# Altium footprint library OWMR.PcbLib: 36 footprints (part 2 of 3)
Each footprint in its own frame and in the unit in brackets; x right, y up, seen from the top. Pads: shape width x height; smd on the part's side, far side on the other; paste and mask are expansions set on the pad; w line width, h text height; cw(c..) or ccw(c..) is an arc to the next point about the centre after c.
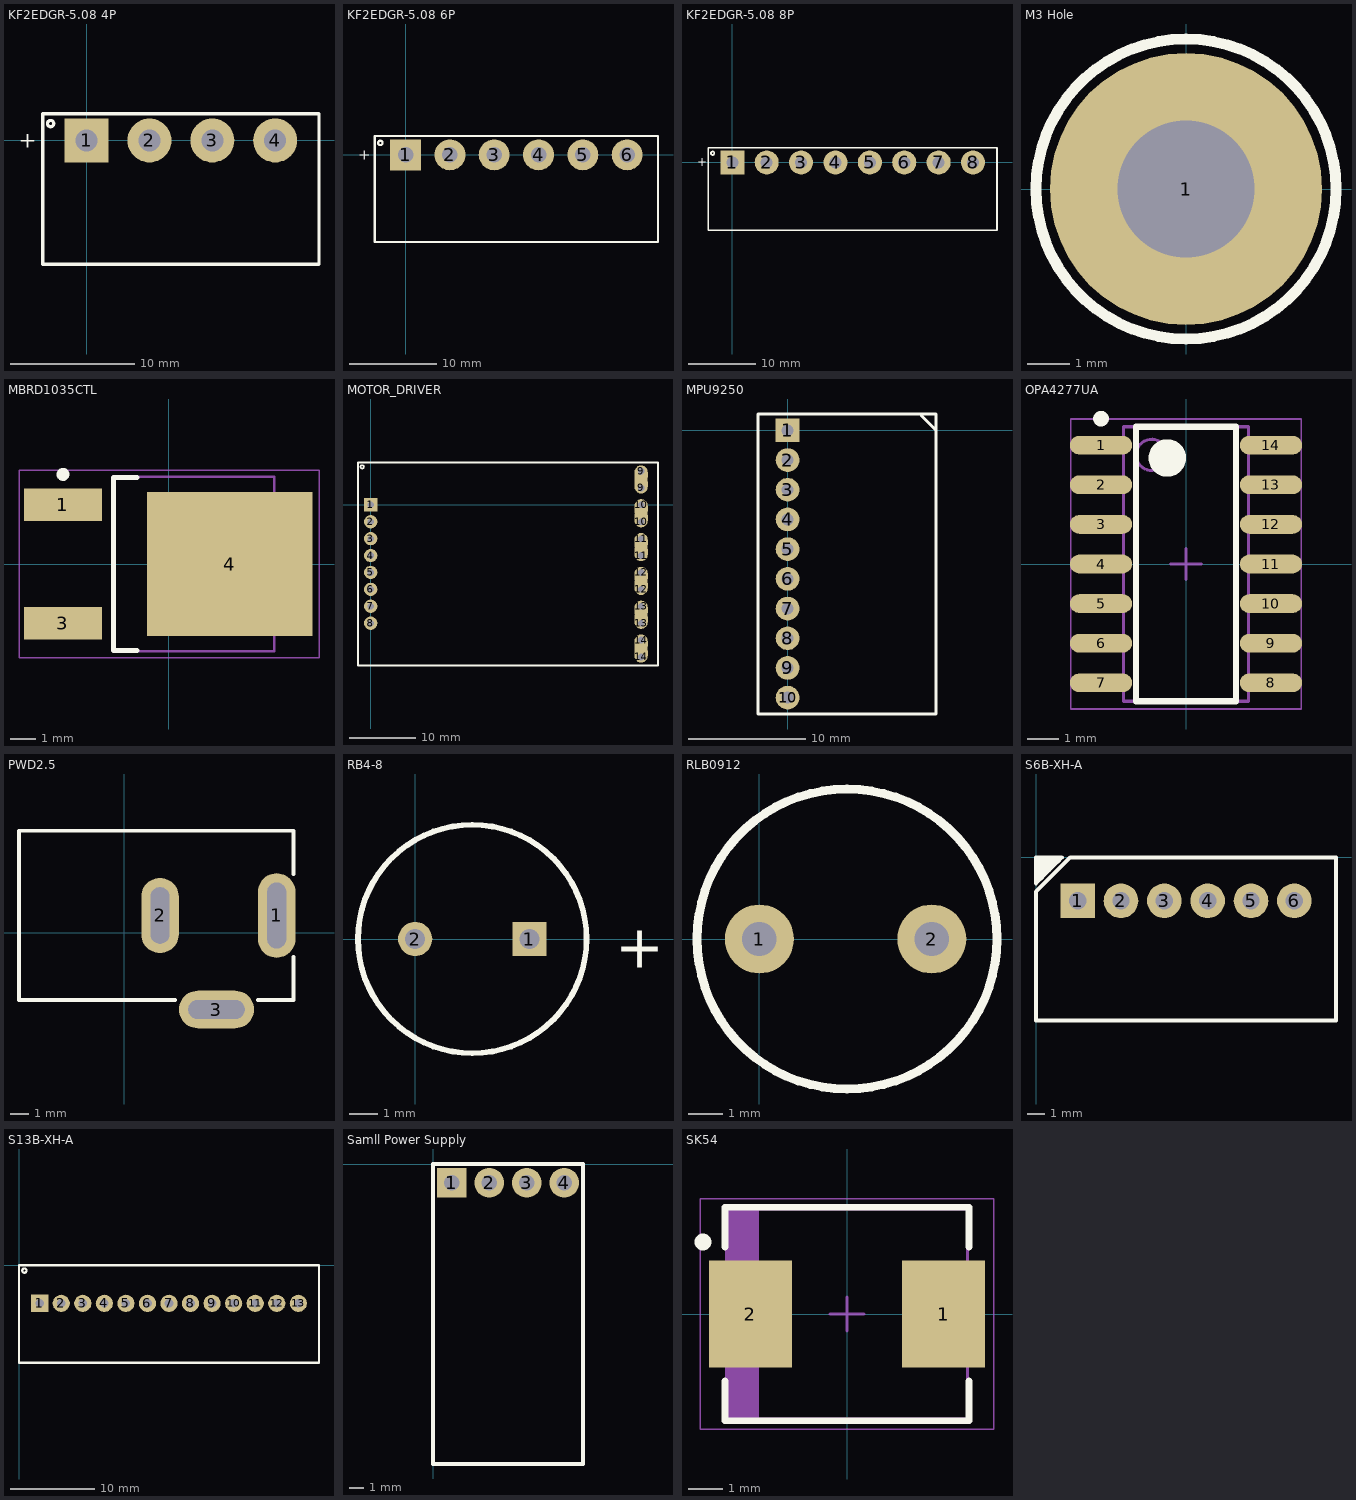
[diagram p1: the footprints below, top view; thin cyan lines are the x and y axes]

## KF2EDGR-5.08 4P [mil]
pads (4):
  rect 140x140 hole 70: 1(0,0)
  round 140 hole 70: 2(200,0) 3(400,0) 4(600,0)
Top Overlay:
  circle w10: c-114.37,53.74 r10
  lines w10: -139.37,-393.7 -139.37,85 739.37,85 739.37,-393.7 -139.37,-393.7
  text "+" at -215,-23.33 h50

## KF2EDGR-5.08 6P [mil]
pads (6):
  rect 140x140 hole 70: 1(0,0)
  round 140 hole 70: 2(200,0) 3(400,0) 4(600,0) 5(800,0) 6(1000,0)
Top Overlay:
  circle w10: c-114.37,53.74 r10
  lines w10: -139.37,-393.7 -139.37,85 1139.37,85 1139.37,-393.7 -139.37,-393.7
  text "+" at -215,-23.33 h50

## KF2EDGR-5.08 8P [mil]
pads (8):
  rect 140x140 hole 70: 1(0,0)
  round 140 hole 70: 2(200,0) 3(400,0) 4(600,0) 5(800,0) 6(1000,0) 7(1200,0) 8(1400,0)
Top Overlay:
  circle w10: c-114.37,53.74 r10
  lines w10: -139.37,-393.7 1539.37,-393.7 1539.37,85 -139.37,85 -139.37,-393.7
  text "+" at -205.42,-21.92 h50

## M3 Hole [mm] "M3 Hole"
pads (1):
  round 6.35 hole 3.2: 1(0,0)
Top Overlay:
  circle w0.254: c0,0 r3.501
Bottom Overlay:
  circle w0.254: c0,0 r3.501
Mechanical 1:
  circle w0.254: c0,0 r1.626

## MBRD1035CTL [mm] "D-PAK, 3-Pads, Body 6.21x6.73mm (max), IPC Medium Density"
height 2.38
pads (3):
  rect 3x1.25 smd: 1(-4.1,2.29) 3(-4.1,-2.29)
  rect 6.4x5.55 smd: 4(2.35,0)
Top Overlay:
  circle w0.25: c-4.1,3.465 r0.125
  lines w0.2: -1.25,-3.35 -2.15,-3.35 -2.15,3.35 -1.25,3.35
Mechanical 13:
  lines w0.1: -2.15,-3.375 4.07,-3.375 4.07,3.375 -2.15,3.375 -2.15,-3.375
Mechanical 15:
  lines w0.05: -5.8,-3.625 5.8,-3.625 5.8,3.625 -5.8,3.625 -5.8,-3.625
  lines w0.1: -0.5,0 0.5,0 ; 0,-0.5 0,0.5
3D body "DPAK229P991X238-3N.step": height 2.51, standoff 0, extent -4.14,-3.375 5.765,3.375

## MOTOR_DRIVER [mm] "17A 雙路 大功率馬達驅動模組"
pads (20):
  rect 2x2 hole 1: 1(0,0)
  round 2 hole 1: 2(0,-2.54) 3(0,-5.08) 4(0,-7.62) 5(0,-10.16) 6(0,-12.7) 7(0,-15.24) 8(0,-17.78)
  oval 2x2.8 hole 1 copper offset 0,0.55: 9(40.64,2.54) 10(40.64,-2.54) 11(40.64,-7.62) 12(40.64,-12.7) 13(40.64,-17.78) 14(40.64,-22.86)
  oval 2x2.8 hole 1 copper offset 0,-0.55: 9(40.64,5.08) 10(40.64,0) 11(40.64,-5.08) 12(40.64,-10.16) 13(40.64,-15.24) 14(40.64,-20.32)
Top Overlay:
  circle w0.254: c-1.27,5.715 r0.254
  lines w0.254: -1.905,-24.13 43.18,-24.13 43.18,6.35 -1.905,6.35 -1.905,-24.13

## MPU9250 [mil] "MPU9250"
pads (10):
  rect 80x80 hole 40: 1(0,0)
  round 80 hole 40: 2(0,-100) 3(0,-200) 4(0,-300) 5(0,-400) 6(0,-500) 7(0,-600) 8(0,-700) 9(0,-800) 10(0,-900)
Top Overlay:
  lines w10: 450,50 500,0 ; -100,-955 500,-955 500,55 -100,55 -100,-955

## OPA4277UA [mm] "SOIC, 14-Leads, Body 8.65x3.90mm, Pitch 1.27mm, IPC Medium Density"
height 1.75
pads (14):
  oval 2x0.6 smd: 1(-2.725,3.81) 2(-2.725,2.54) 3(-2.725,1.27) 4(-2.725,0) 5(-2.725,-1.27) 6(-2.725,-2.54) 7(-2.725,-3.81) 8(2.725,-3.81) 9(2.725,-2.54) 10(2.725,-1.27) 11(2.725,0) 12(2.725,1.27) 13(2.725,2.54) 14(2.725,3.81)
Top Overlay:
  circle w0.25: c-2.725,4.66 r0.125
  circle w0.6: c-0.6,3.4 r0.3
  lines w0.2: -1.6,-4.4 -1.6,4.4 1.6,4.4 1.6,-4.4 -1.6,-4.4
Mechanical 13:
  circle w0.1: c-1.1,3.5 r0.5
  lines w0.1: -2,-4.4 -2,4.4 2,4.4 2,-4.4 -2,-4.4
Mechanical 15:
  lines w0.05: -3.7,-4.65 -3.7,4.65 3.7,4.65 3.7,-4.65 -3.7,-4.65
  lines w0.1: -0.5,0 0.5,0 ; 0,-0.5 0,0.5
3D body "SOIC127P600X175-14N.step": height 1.75, standoff 0, extent -3,-4.4 3,4.4

## PWD2.5 [mm]
pads (3):
  oval 2x4.5 hole 1 slot 3.5 at 90 deg: 1(8.105,0.905)
  oval 2x4 hole 1 slot 3 at 90 deg: 2(1.905,0.905)
  oval 4x2 hole 1 slot 3 at 0 deg: 3(4.905,-4.095)
Top Overlay:
  lines w0.2: 2.705,-3.595 -5.595,-3.595 -5.595,5.405 9.005,5.405 9.005,3.105 ; 7.105,-3.595 9.005,-3.595 9.005,-1.295

## Raspberry 4 [mm]

## RB4-8 [mm]
pads (2):
  rect 1.2x1.2 hole 0.7: 1(4,0)
  round 1.2 hole 0.7: 2(0,0)
Top Overlay:
  circle w0.2: c2,0 r4
  text "+" at 7,-1 h1.5

## RLB0912 [mm]
pads (2):
  round 2 hole 1: 1(0,0) 2(5,0)
Top Overlay:
  circle w0.254: c2.54,0 r4.35

## S6B-XH-A [mil] "XH Header-side 6P"
pads (6):
  rect 80x80 hole 40: 1(96,-100)
  round 80 hole 40: 2(196,-100) 3(296,-100) 4(396,-100) 5(496,-100) 6(596,-100)
Top Overlay:
  lines w10: 0,-49.21 9.84,-49.21 ; 0,-39.37 19.68,-39.37 ; 0,-29.53 29.53,-29.53 29.53,0 ; 0,-19.68 39.37,-19.68 39.37,0 ; 0,-9.84 49.21,-9.84 ; 9.84,0 9.84,-49.21 ; 19.68,0 19.68,-39.37 ; 49.21,0 49.21,-9.84 ; 9.84,-49.21 19.68,-39.37 ; 49.21,-9.84 59.06,0 ; 59.06,0 0,0 0,-59.06 59.06,0 ; 0,-376 0,-78.74 78.74,0 692,0 692,-376 0,-376

## S13B-XH-A [mil] "XH Header-side 13P"
pads (13):
  rect 80x80 hole 40: 1(96,-177)
  round 80 hole 40: 2(196,-177) 3(296,-177) 4(396,-177) 5(496,-177) 6(596,-177) 7(696,-177) 8(796,-177) 9(896,-177) 10(996,-177) 11(1096,-177) 12(1196,-177) 13(1296,-177)
Top Overlay:
  circle w10: c25,-25 r10
  lines w10: 0,-453 1392,-453 1392,0 0,0 0,-453

## Samll Power Supply [mm] "5v to 3P3 Power Supply"
pads (4):
  rect 2x2 hole 1.02: 1(1.27,-1.27)
  round 2 hole 1.02: 2(3.81,-1.27) 3(6.35,-1.27) 4(8.89,-1.27)
Top Overlay:
  lines w0.254: 0,-20.32 0,0 10.16,0 10.16,-20.32 0,-20.32

## SK54 [mm] "Molded Diode, 2-Leads, Body 6.86x5.91mm, IPC Medium Density"
height 2.62
pads (2):
  rect 2.45x3.15 smd: 1(2.85,0) 2(-2.85,0)
Top Overlay:
  circle w0.25: c-4.25,2.125 r0.125
  lines w0.2: -3.6,-1.975 -3.6,-3.15 3.6,-3.15 3.6,-1.975 ; -3.6,1.975 -3.6,3.15 3.6,3.15 3.6,1.975
Mechanical 13:
  rectangle: -3.555,-3.11 -2.599,3.11
  lines w0.1: -3.555,-3.11 -3.555,3.11 3.555,3.11 3.555,-3.11 -3.555,-3.11
Mechanical 15:
  lines w0.05: -4.325,-3.4 -4.325,3.4 4.325,3.4 4.325,-3.4 -4.325,-3.4
  lines w0.1: -0.5,0 0.5,0 ; 0,-0.5 0,0.5
3D body: height 2.62, standoff 0, extent -3.555,-3.11 3.555,3.11